# Altium schematic symbol library SCH - MCU - STM32 - ST MICROELECTRONICS STM32L063C8TX LQFP48.SchLib: 1 symbol
Pins are listed as number, name and electrical type; pins without a type are passive.

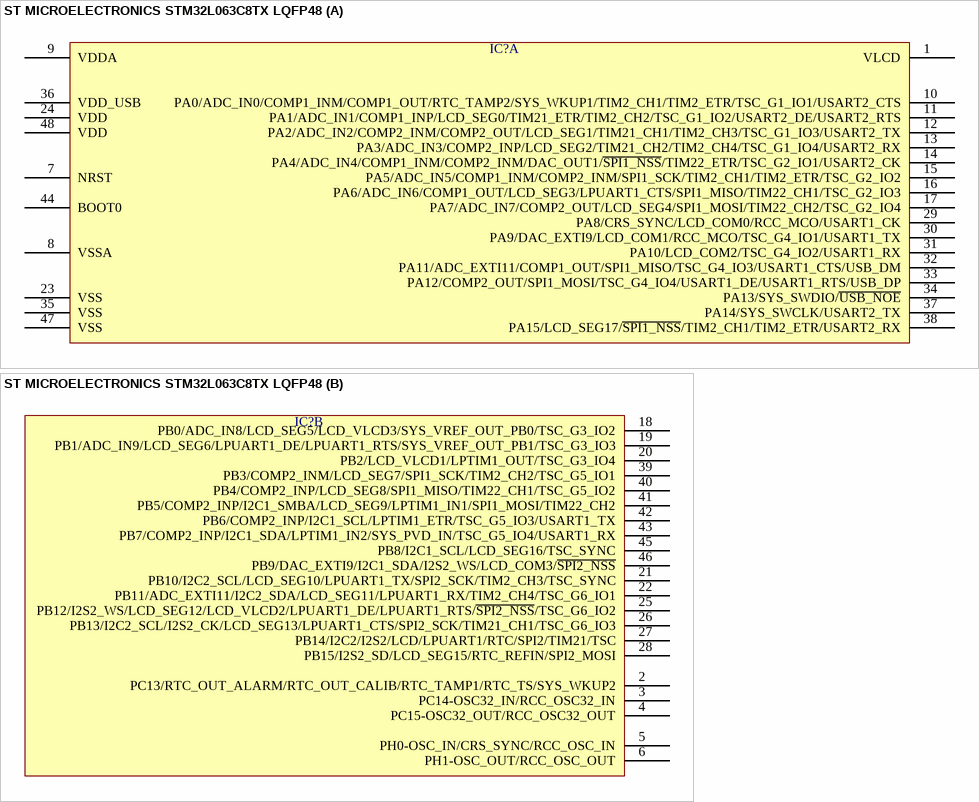
[diagram p0: symbol ST MICROELECTRONICS STM32L063C8TX LQFP48]

## ST MICROELECTRONICS STM32L063C8TX LQFP48
designator IC?  (value not drawn)
part A pins: 1 VLCD, 7 NRST, 8 VSSA, 9 VDDA, 10 PA0/ADC_IN0/COMP1_INM/COMP1_OUT/RTC_TAMP2/SYS_WKUP1/TIM2_CH1/TIM2_ETR/TSC_G1_IO1/USART2_CTS, 11 PA1/ADC_IN1/COMP1_INP/LCD_SEG0/TIM21_ETR/TIM2_CH2/TSC_G1_IO2/USART2_DE/USART2_RTS, 12 PA2/ADC_IN2/COMP2_INM/COMP2_OUT/LCD_SEG1/TIM21_CH1/TIM2_CH3/TSC_G1_IO3/USART2_TX, 13 PA3/ADC_IN3/COMP2_INP/LCD_SEG2/TIM21_CH2/TIM2_CH4/TSC_G1_IO4/USART2_RX, 14 PA4/ADC_IN4/COMP1_INM/COMP2_INM/DAC_OUT1/~{SPI1_NSS}/TIM22_ETR/TSC_G2_IO1/USART2_CK, 15 PA5/ADC_IN5/COMP1_INM/COMP2_INM/SPI1_SCK/TIM2_CH1/TIM2_ETR/TSC_G2_IO2, 16 PA6/ADC_IN6/COMP1_OUT/LCD_SEG3/LPUART1_CTS/SPI1_MISO/TIM22_CH1/TSC_G2_IO3, 17 PA7/ADC_IN7/COMP2_OUT/LCD_SEG4/SPI1_MOSI/TIM22_CH2/TSC_G2_IO4, 23 VSS, 24 VDD, 29 PA8/CRS_SYNC/LCD_COM0/RCC_MCO/USART1_CK, 30 PA9/DAC_EXTI9/LCD_COM1/RCC_MCO/TSC_G4_IO1/USART1_TX, 31 PA10/LCD_COM2/TSC_G4_IO2/USART1_RX, 32 PA11/ADC_EXTI11/COMP1_OUT/SPI1_MISO/TSC_G4_IO3/USART1_CTS/USB_DM, 33 PA12/COMP2_OUT/SPI1_MOSI/TSC_G4_IO4/USART1_DE/USART1_RTS/USB_DP, 34 PA13/SYS_SWDIO/~{USB_NOE}, 35 VSS, 36 VDD_USB, 37 PA14/SYS_SWCLK/USART2_TX, 38 PA15/LCD_SEG17/~{SPI1_NSS}/TIM2_CH1/TIM2_ETR/USART2_RX, 44 BOOT0, 47 VSS, 48 VDD
part B pins: 2 PC13/RTC_OUT_ALARM/RTC_OUT_CALIB/RTC_TAMP1/RTC_TS/SYS_WKUP2, 3 PC14-OSC32_IN/RCC_OSC32_IN, 4 PC15-OSC32_OUT/RCC_OSC32_OUT, 5 PH0-OSC_IN/CRS_SYNC/RCC_OSC_IN, 6 PH1-OSC_OUT/RCC_OSC_OUT, 18 PB0/ADC_IN8/LCD_SEG5/LCD_VLCD3/SYS_VREF_OUT_PB0/TSC_G3_IO2, 19 PB1/ADC_IN9/LCD_SEG6/LPUART1_DE/LPUART1_RTS/SYS_VREF_OUT_PB1/TSC_G3_IO3, 20 PB2/LCD_VLCD1/LPTIM1_OUT/TSC_G3_IO4, 21 PB10/I2C2_SCL/LCD_SEG10/LPUART1_TX/SPI2_SCK/TIM2_CH3/TSC_SYNC, 22 PB11/ADC_EXTI11/I2C2_SDA/LCD_SEG11/LPUART1_RX/TIM2_CH4/TSC_G6_IO1, 25 PB12/I2S2_WS/LCD_SEG12/LCD_VLCD2/LPUART1_DE/LPUART1_RTS/~{SPI2_NSS}/TSC_G6_IO2, 26 PB13/I2C2_SCL/I2S2_CK/LCD_SEG13/LPUART1_CTS/SPI2_SCK/TIM21_CH1/TSC_G6_IO3, 27 PB14/I2C2/I2S2/LCD/LPUART1/RTC/SPI2/TIM21/TSC, 28 PB15/I2S2_SD/LCD_SEG15/RTC_REFIN/SPI2_MOSI, 39 PB3/COMP2_INM/LCD_SEG7/SPI1_SCK/TIM2_CH2/TSC_G5_IO1, 40 PB4/COMP2_INP/LCD_SEG8/SPI1_MISO/TIM22_CH1/TSC_G5_IO2, 41 PB5/COMP2_INP/I2C1_SMBA/LCD_SEG9/LPTIM1_IN1/SPI1_MOSI/TIM22_CH2, 42 PB6/COMP2_INP/I2C1_SCL/LPTIM1_ETR/TSC_G5_IO3/USART1_TX, 43 PB7/COMP2_INP/I2C1_SDA/LPTIM1_IN2/SYS_PVD_IN/TSC_G5_IO4/USART1_RX, 45 PB8/I2C1_SCL/LCD_SEG16/TSC_SYNC, 46 PB9/DAC_EXTI9/I2C1_SDA/I2S2_WS/LCD_COM3/~{SPI2_NSS}